# EAGLE library part XBEE3ZB (library lbr_rin9147)
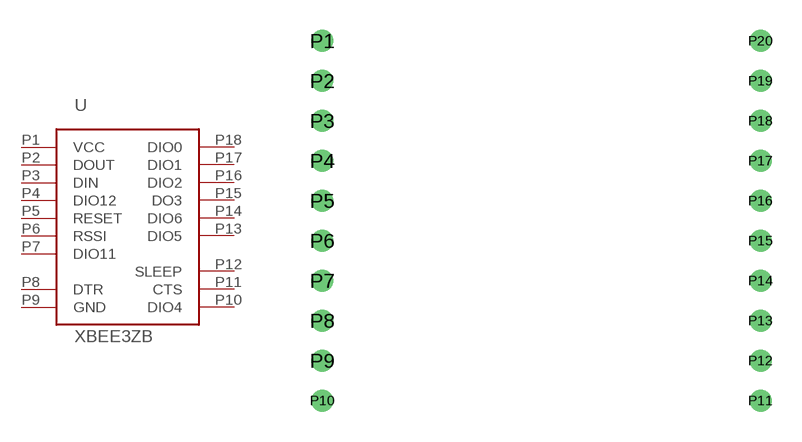
[diagram p3: symbol with the pads of XBEE3ZB; footprint XBEE3ZB]

Designator prefix -

## XBEE3ZB  [XBEE3ZB]
P1  VCC  pas
P2  DOUT
P3  DIN
P4  DIO12
P5  RESET
P6  RSSI
P7  DIO11
P8  DTR
P9  GND  pas
P10  DIO4
P11  CTS
P12  SLEEP
P13  DIO5
P14  DIO6
P15  DO3
P16  DIO2
P17  DIO1
P18  DIO0

## Footprint XBEE3ZB (pad centres in mm)
drill 0.6: P1 0,0; P2 0,-2.007; P3 0,-4.013; P4 0,-6.02; P5 0,-8.026; P6 0,-10.033; P7 0,-12.04; P8 0,-14.046; P9 0,-16.053; P10 0,-18.059; P11 21.996,-18.059; P12 21.996,-16.053; P13 21.996,-14.046; P14 21.996,-12.04; P15 21.996,-10.033; P16 21.996,-8.026; P17 21.996,-6.02; P18 21.996,-4.013; P19 21.996,-2.007; P20 21.996,0